# Altium footprint library 35RASMT4BHNTRX.PcbLib: 2 footprints
Each footprint in its own frame and in the unit in brackets; x right, y up, seen from the top. Pads: shape width x height; smd on the part's side, far side on the other; paste and mask are expansions set on the pad; w line width, h text height; cw(c..) or ccw(c..) is an arc to the next point about the centre after c.
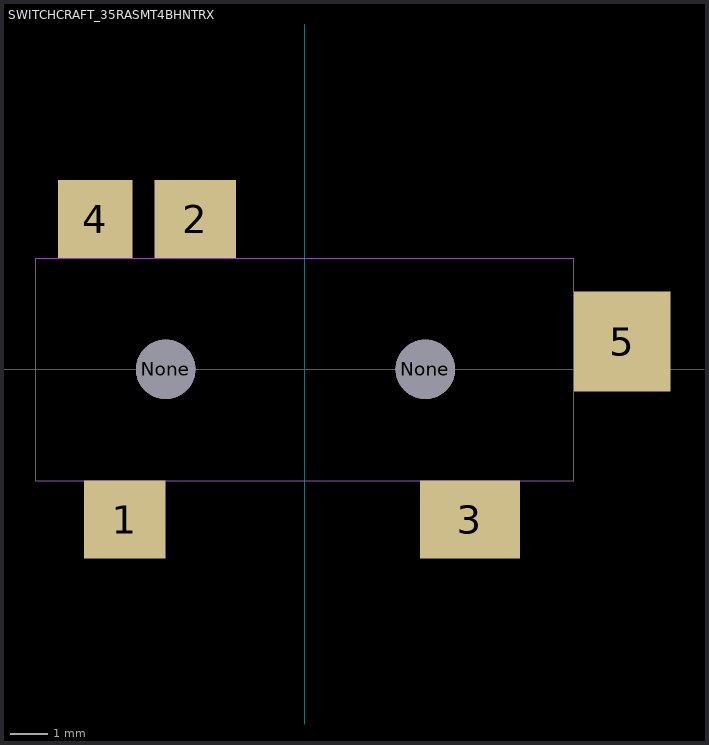
[diagram p0: the footprints below, top view; thin cyan lines are the x and y axes]

## PCBComponent_1 [mm]

## SWITCHCRAFT_35RASMT4BHNTRX [mm]
pads (7):
  rect 2.2x2.1 smd: 1(-4.85,-4.05) 2(-2.95,4.05)
  rect 2.7x2.1 smd: 3(4.45,-4.048)
  rect 2x2.1 smd: 4(-5.65,4.05)
  rect 2.6x2.7 smd: 5(8.553,0.748)
  round 1.6 hole 1.6 unplated: None(-3.75,0) None(3.25,0)
Mechanical 1:
  lines w0: -7.25,-3 -3.137,-3 ; -7.25,-3 -7.25,3 7.25,3 7.25,-3 -4.55,-3